# Altium footprint library MOLEX_1054302105.PcbLib: 1 footprints
Each footprint in its own frame and in the unit in brackets; x right, y up, seen from the top. Pads: shape width x height; smd on the part's side, far side on the other; paste and mask are expansions set on the pad; w line width, h text height; cw(c..) or ccw(c..) is an arc to the next point about the centre after c.
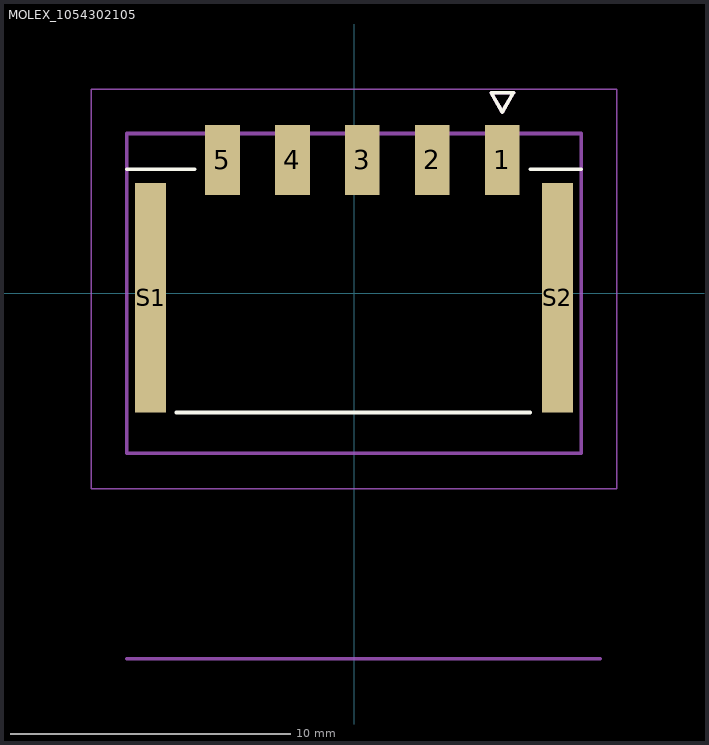
[diagram p0: the footprint, top view; thin cyan lines are the x and y axes]

## MOLEX_1054302105 [mm]
pads (7):
  rect 1.24x2.5 smd mask+0: 1(5.3,4.775) 2(2.8,4.775) 3(0.3,4.775) 4(-2.2,4.775) 5(-4.7,4.775)
  rect 1.1x8.2 smd mask+0: S1(-7.27,-0.155) S2(7.27,-0.155)
Top Overlay:
  lines w0.127: -8.12,4.435 -5.7,4.435 ; -6.35,-4.255 6.3,-4.255 ; 6.3,4.435 8.12,4.435 ; 4.9,7.175 5.3,6.475 5.7,7.175 4.9,7.175
Top Solder:
  region: 7.896,-4.331 6.644,-4.331 6.644,4.021 7.896,4.021
  region: -6.644,-4.331 -7.896,-4.331 -7.896,4.021 -6.644,4.021
  region: 5.996,3.449 4.604,3.449 4.604,6.101 5.996,6.101
  region: 3.496,3.449 2.104,3.449 2.104,6.101 3.496,6.101
  region: 0.996,3.449 -0.396,3.449 -0.396,6.101 0.996,6.101
  region: -1.504,3.449 -2.896,3.449 -2.896,6.101 -1.504,6.101
  region: -4.004,3.449 -5.396,3.449 -5.396,6.101 -4.004,6.101
Mechanical 13:
  lines w0.127: -8.12,-13.055 8.8,-13.055 ; -8.12,-5.715 -8.12,5.715 8.12,5.715 8.12,-5.715 -8.12,-5.715 ; 4.9,7.175 5.3,6.475 5.7,7.175 4.9,7.175
  text "MAX" at -9.87,-9.725 h0.75
  text "PCB Edge" at 3.88,-12.725 h0.75
Mechanical 15:
  lines w0.05: -9.39,-6.985 9.39,-6.985 9.39,7.295 -9.39,7.295 -9.39,-6.985
3D body "1054302105--3DModel-STEP-390490.STEP": height 6.99, standoff 0, extent -8.12,-5.805 8.12,5.625